# Altium schematic symbol library TC2030.Schlib: 1 symbol
Pins are listed as number, name and electrical type; pins without a type are passive.

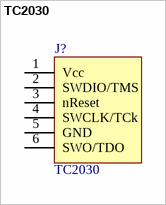
[diagram p0: symbol TC2030]

## TC2030
designator J?  (no BOM)
CONN_6P_2R_PR_TAGCONNECT; Source: TC2030.SchLib; Pin Count: 5; Design Item ID: ICSP; Component Type: Standard; Component Type: Connectors
pins: 1 Vcc "/MCLR", 2 SWDIO/TMS "Vcc", 3 nReset "GND", 4 SWCLK/TCk "PGD", 5 GND "PGC", 6 SWO/TDO
1 alternate drawing of the same symbol